# Altium footprint library Voltage Regulator.PcbLib: 34 footprints (part 2 of 3)
Each footprint in its own frame and in the unit in brackets; x right, y up, seen from the top. Pads: shape width x height; smd on the part's side, far side on the other; paste and mask are expansions set on the pad; w line width, h text height; cw(c..) or ccw(c..) is an arc to the next point about the centre after c.
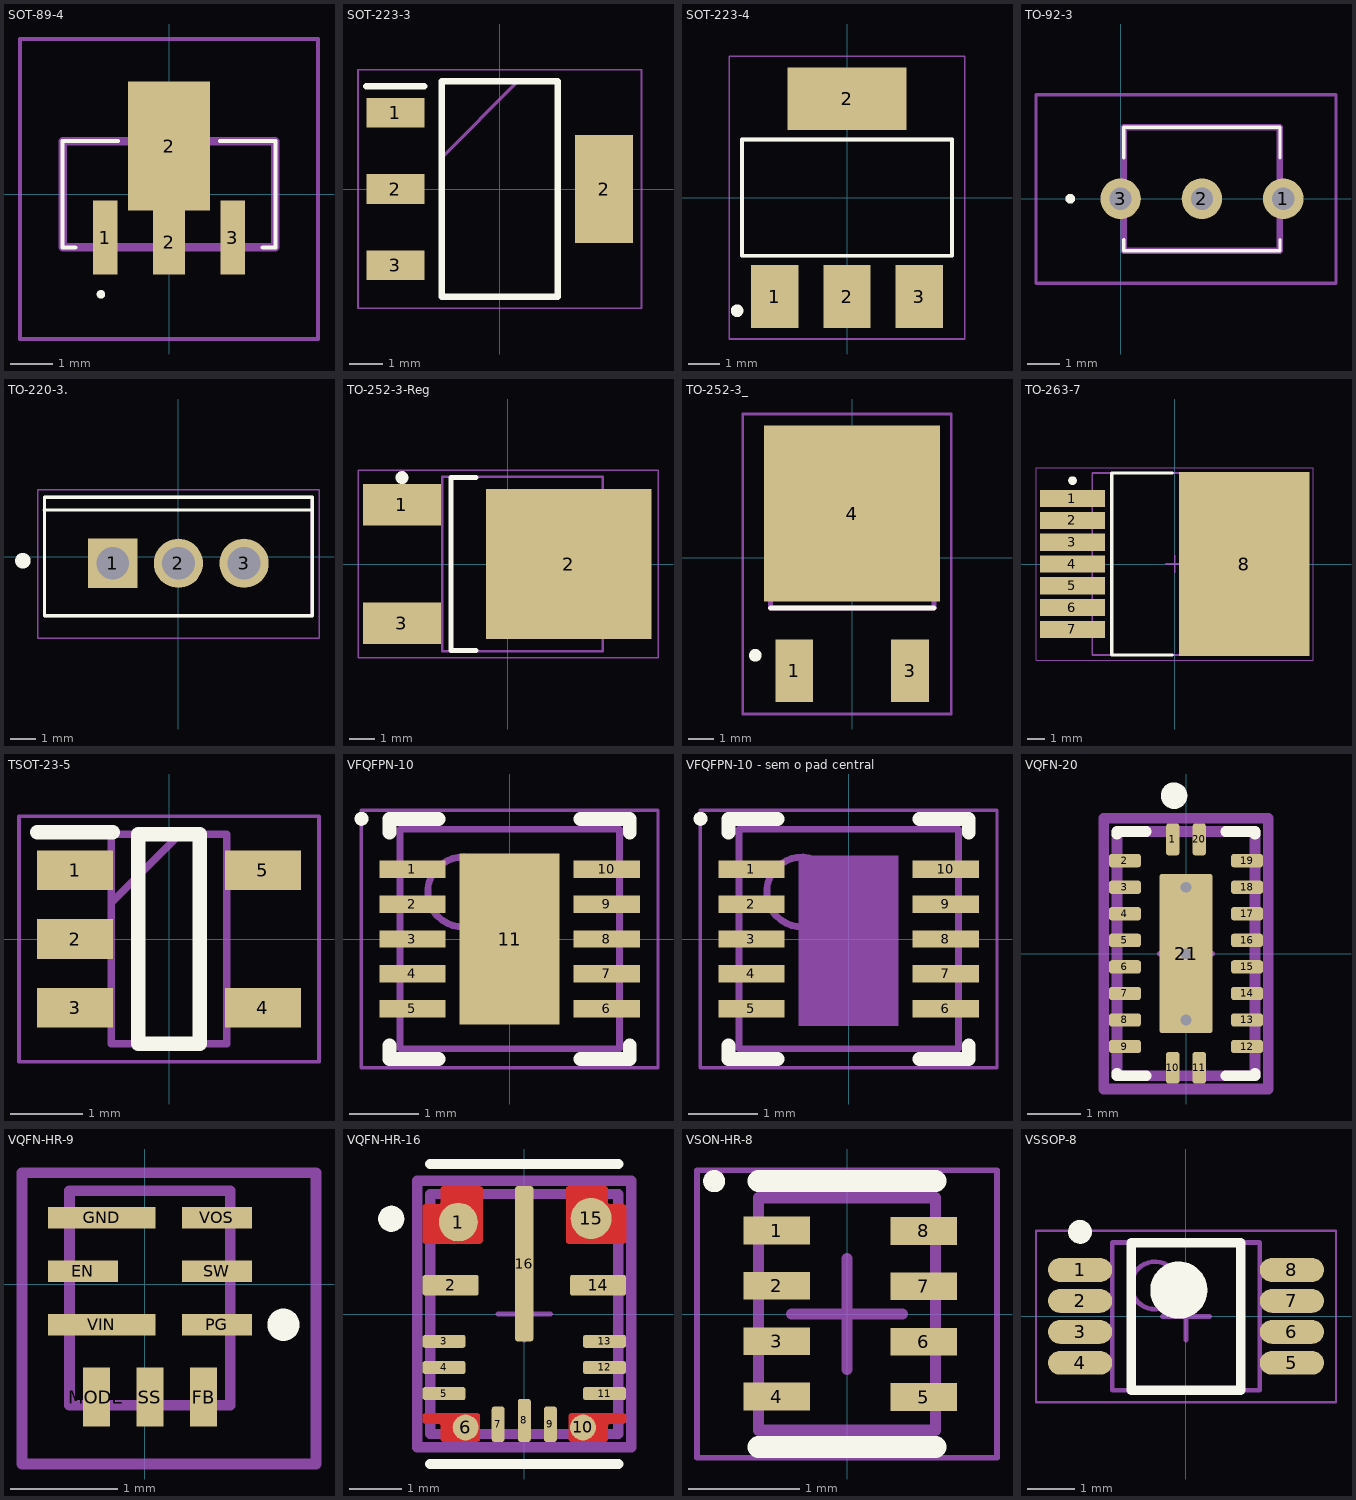
[diagram p1: the footprints below, top view; thin cyan lines are the x and y axes]

## SOT-89-4 [mm]
pads (4):
  rect 0.58x1.73 smd: 1(-1.5,-1.017) 3(1.5,-1.017)
  rect 0.76x1.5 smd: 2(0,-1.132)
  rect 1.933x3.03 smd: 2(0,1.132)
Top Overlay:
  lines w0.1: -2.2,-1.25 -2.5,-1.25 -2.5,1.25 -1.2,1.25 ; 1.2,1.25 2.5,1.25 2.5,-1.25 2.2,-1.25 ; -1.6,-2.4 ccw(c-1.6,-2.35) -1.6,-2.3 ccw(c-1.6,-2.35) -1.6,-2.4
Mechanical 13:
  lines w0.2: -2.5,-1.25 2.5,-1.25 2.5,1.25 -2.5,1.25 -2.5,-1.25
Mechanical 15:
  lines w0.1: -3.5,-3.4 3.5,-3.4 3.5,3.648 -3.5,3.648 -3.5,-3.4
3D body "AP7370-50Y-13.stp": height 1.7, standoff 0, extent -2.5,-1.25 2.5,1.25

## SOT-223-3 [mm]
pads (4):
  rect 1.75x0.9 smd: 1(-3.15,2.3) 2(-3.15,0) 3(-3.15,-2.3)
  rect 1.75x3.25 smd: 2(3.15,0)
Top Overlay:
  lines w0.2: -4.025,3.1 -2.275,3.1 ; -1.75,-3.25 -1.75,3.25 1.75,3.25 1.75,-3.25 -1.75,-3.25
Mechanical 13:
  lines w0.1: -1.75,0.95 0.55,3.25 ; -1.75,-3.25 -1.75,3.25 1.75,3.25 1.75,-3.25 -1.75,-3.25
Mechanical 15:
  lines w0.05: -4.275,-3.6 -4.275,3.6 4.275,3.6 4.275,-3.6 -4.275,-3.6
3D body "AP1117E50G-13.stp": height 1.8, standoff 0, extent -3.5,-3.25 3.5,3.25

## SOT-223-4 [mm]
pads (4):
  rect 1.5x2 smd: 1(-2.3,-3.15) 2(0,-3.15) 3(2.3,-3.15)
  rect 3.8x2 smd: 2(0,3.15)
Top Overlay:
  circle w0.2: c-3.5,-3.6 r0.1
  lines w0.127: -3.35,-1.85 -3.35,1.85 3.35,1.85 3.35,-1.85 -3.35,-1.85
Mechanical 13:
  lines w0.127: -3.35,-1.85 -3.35,1.85 3.35,1.85 3.35,-1.85 -3.35,-1.85
Mechanical 15:
  lines w0.05: -3.75,-4.5 3.75,-4.5 3.75,4.5 -3.75,4.5 -3.75,-4.5
3D body "IC_STMicroelectronics_LDL1117S50R_eec.STEP": height 0.25, standoff 0, extent -3.455,-3.933 3.445,4.167

## TO-92-3 [mm]
pads (3):
  round 1.247 hole 0.68: 1(5,0) 2(2.5,0) 3(0,0)
Top Overlay:
  lines w0.1: 0.1,-1.6 0.1,-1.25 0.1,-1.6 ; 0.1,-1.6 4.9,-1.6 ; 0.1,-1.6 4.9,-1.6 ; 0.1,2.2 4.9,2.2 ; 0.1,2.2 4.9,2.2 ; 0.1,2.2 0.1,1.25 0.1,2.2 ; 4.9,-1.6 4.9,-1.25 4.9,-1.6 ; 4.9,2.2 4.9,1.25 4.9,2.2
  lines w0.2: -1.6,0 cw(c-1.55,0) -1.5,0 ; -1.6,0 ccw(c-1.55,0) -1.5,0 ; -1.6,0 cw(c-1.55,0) -1.5,0
Mechanical 13:
  lines w0.2: 0.1,-1.6 0.1,2.2 4.9,2.2 4.9,-1.6 0.1,-1.6
Mechanical 15:
  lines w0.1: -2.6,-2.6 -2.6,3.2 6.623,3.2 6.623,-2.6 -2.6,-2.6
3D body "TO-92 Formed Leads.stp": height 8.58, standoff -3, extent -0.281,-2.341 5.259,1.219

## TO-220-3. [mm]
pads (3):
  rect 1.91x1.91 hole 1.27: 1(-2.55,-0.26)
  round 1.91 hole 1.27: 2(0,-0.26) 3(2.55,-0.26)
Top Overlay:
  circle w0.3: c-6.04,-0.16 r0.15
  lines w0.1: -5.22,1.81 5.18,1.81
  lines w0.127: -5.2,-2.3 5.2,-2.3 5.2,2.3 -5.2,2.3 -5.2,-2.3
Mechanical 13:
  circle w0.3: c-2.53,-0.16 r0.15
  lines w0.127: -5.2,-2.3 -5.2,2.3 5.2,2.3 5.2,-2.3 -5.2,-2.3
Mechanical 15:
  lines w0.05: -5.46,-3.175 -5.46,2.6 5.46,2.6 5.46,-3.175 -5.46,-3.175
3D body "L7812CV.STEP": height 20.07, standoff -8.83, extent -5.1,-1.933 5.1,2.667

## TO-252-3-Reg [mm] "D-PAK, 3-Pads, Body 6,21x6,73mm (max), IPC Medium Density"
height 2.38
pads (3):
  rect 3x1.6 smd: 1(-4.1,2.29) 3(-4.1,-2.29)
  rect 6.4x5.8 smd: 2(2.35,0)
Top Overlay:
  circle w0.25: c-4.1,3.34 r0.125
  lines w0.2: -1.25,-3.35 -2.2,-3.35 -2.2,3.35 -1.25,3.35
Mechanical 13:
  lines w0.1: -2.55,-3.375 3.67,-3.375 3.67,3.375 -2.55,3.375 -2.55,-3.375
Mechanical 15:
  lines w0.05: -5.8,-3.625 5.8,-3.625 5.8,3.625 -5.8,3.625 -5.8,-3.625
  lines w0.1: -0.5,0 0.5,0 ; 0,-0.5 0,0.5
3D body "DPAK229P991X238-3N.step": height 2.99, standoff 0, extent -4.6,-3.375 5.305,3.375

## TO-252-3_ [mm]
pads (3):
  rect 1.5x2.5 smd: 1(-2.3,-4.496) 3(2.3,-4.496)
  rect 7x7 smd: 4(0,1.754)
Top Overlay:
  lines w0.2: -3.25,-1.996 3.25,-1.996
  lines w0.3: -3.939,-3.934 cw(c-3.855,-3.88) -3.937,-3.937
Mechanical 13:
  lines w0.2: -3.25,-1.996 3.25,-1.996 3.25,3.504 -3.25,3.504 -3.25,-1.996
Mechanical 15:
  lines w0.1: -4.35,-6.215 3.937,-6.215 3.937,5.715 -4.35,5.715 -4.35,-6.215
3D body "User Library-TO-252-3.STEP": height 2.41, standoff 0, extent -3.35,-5.292 3.35,5.06

## TO-263-7 [mm] "D2-PAK, 8-Pads, Body 8,51x8,66mm (max), IPC Medium Density"
height 4.64
pads (8):
  rect 3.8x1 smd: 1(-5.95,3.81) 2(-5.95,2.54) 3(-5.95,1.27) 4(-5.95,0) 5(-5.95,-1.27) 6(-5.95,-2.54) 7(-5.95,-3.81)
  rect 7.6x10.7 smd: 8(4.05,0)
Top Overlay:
  circle w0.25: c-5.95,4.86 r0.125
  lines w0.2: -0.15,-5.3 -3.65,-5.3 -3.65,5.3 -0.15,5.3
Mechanical 13:
  lines w0.1: -4.8,-5.3 6.01,-5.3 6.01,5.3 -4.8,5.3 -4.8,-5.3
Mechanical 15:
  lines w0.05: -8.075,-5.6 8.075,-5.6 8.075,5.6 -8.075,5.6 -8.075,-5.6
  lines w0.1: -0.5,0 0.5,0 ; 0,-0.5 0,0.5
3D body "DPAK127P1463X464-8N.step": height 4.79, standoff 0, extent -6.963,-5.3 7.67,5.3

## TSOT-23-5 [mm]
pads (5):
  rect 1.05x0.55 smd: 1(-1.3,0.95) 2(-1.3,0) 3(-1.3,-0.95) 4(1.3,-0.95) 5(1.3,0.95)
Top Overlay:
  lines w0.2: -1.825,1.475 -0.775,1.475 ; -0.425,-1.45 -0.425,1.45 0.425,1.45 0.425,-1.45 -0.425,-1.45
Mechanical 13:
  lines w0.1: -0.8,0.5 0.15,1.45 ; -0.8,-1.45 -0.8,1.45 0.8,1.45 0.8,-1.45 -0.8,-1.45
Mechanical 15:
  lines w0.05: -2.075,-1.7 -2.075,1.7 2.075,1.7 2.075,-1.7 -2.075,-1.7
3D body "NCP718ASN500T1G.stp": height 1, standoff 0, extent -1.4,-1.45 1.4,1.45

## VFQFPN-10 [mm] "SON, 10-Leads, Body 3,00x3,00mm, Pitch 0,50mm, Thermal Pad 2,45x1,44mm, IPC Medium Density"
height 1
pads (11):
  rect 0.95x0.25 smd: 1(-1.395,1) 2(-1.395,0.5) 3(-1.395,0) 4(-1.395,-0.5) 5(-1.395,-1) 6(1.395,-1) 7(1.395,-0.5) 8(1.395,0) 9(1.395,0.5) 10(1.395,1)
  rect 1.44x2.45 smd: 11(0,0)
Top Overlay:
  circle w0.1: c-2.125,1.725 r0.05
  lines w0.2: -1.725,-1.525 -1.725,-1.725 -1.02,-1.725 ; -1.725,1.525 -1.725,1.725 -1.02,1.725 ; 1.02,-1.725 1.725,-1.725 1.725,-1.525 ; 1.02,1.725 1.725,1.725 1.725,1.525
Mechanical 13:
  circle w0.1: c-0.675,0.675 r0.5
  lines w0.1: -1.575,-1.575 -1.575,1.575 1.575,1.575 1.575,-1.575 -1.575,-1.575
Mechanical 15:
  lines w0.05: -2.13,-1.85 -2.13,1.85 2.13,1.85 2.13,-1.85 -2.13,-1.85
  lines w0.1: -0.5,0 0.5,0 ; 0,-0.5 0,0.5
3D body "SON50P300X100_HS-11N.step": height 1, standoff 0, extent -1.595,-1.575 1.595,1.575

## VFQFPN-10 - sem o pad central [mm] "SON, 10-Leads, Body 3,00x3,00mm, Pitch 0,50mm, Thermal Pad 2,45x1,44mm, IPC Medium Density"
height 1
pads (11):
  rect 0.95x0.25 smd: 1(-1.395,1) 2(-1.395,0.5) 3(-1.395,0) 4(-1.395,-0.5) 5(-1.395,-1) 6(1.395,-1) 7(1.395,-0.5) 8(1.395,0) 9(1.395,0.5) 10(1.395,1)
  rect 1.44x2.45 on Mech2: ""(0,-0.025)
Top Overlay:
  circle w0.1: c-2.125,1.725 r0.05
  lines w0.2: -1.725,-1.525 -1.725,-1.725 -1.02,-1.725 ; -1.725,1.525 -1.725,1.725 -1.02,1.725 ; 1.02,-1.725 1.725,-1.725 1.725,-1.525 ; 1.02,1.725 1.725,1.725 1.725,1.525
Mechanical 13:
  circle w0.1: c-0.675,0.675 r0.5
  lines w0.1: -1.575,-1.575 -1.575,1.575 1.575,1.575 1.575,-1.575 -1.575,-1.575
Mechanical 15:
  lines w0.05: -2.13,-1.85 -2.13,1.85 2.13,1.85 2.13,-1.85 -2.13,-1.85
  lines w0.1: -0.5,0 0.5,0 ; 0,-0.5 0,0.5
3D body "SON50P300X100_HS-11N.step": height 1, standoff 0, extent -1.595,-1.575 1.595,1.575

## VQFN-20 [mm]
pads (21):
  rrect40% 0.25x0.6 smd paste+0 mask+0: 1(-0.25,2.155) 10(-0.25,-2.145) 11(0.25,-2.145) 20(0.25,2.155)
  rrect40% 0.6x0.25 smd paste+0 mask+0: 2(-1.15,1.755) 3(-1.15,1.255) 4(-1.15,0.755) 5(-1.15,0.255) 6(-1.15,-0.245) 7(-1.15,-0.745) 8(-1.15,-1.245) 9(-1.15,-1.745) 12(1.15,-1.745) 13(1.15,-1.245) 14(1.15,-0.745) 15(1.15,-0.245) 16(1.15,0.255) 17(1.15,0.755) 18(1.15,1.255) 19(1.15,1.755)
  rrect10% 1x3 smd paste-1000 mask+0: 21(0,0.005)
via 0,-1.245 diameter 0.5 hole 0.2
via 0,0.005 diameter 0.5 hole 0.2
via 0,1.255 diameter 0.5 hole 0.2
Top Overlay:
  circle w0.25: c-0.225,2.98 r0.125
  lines w0.2: -1.3,-2.245 -1.3,-2.295 -0.75,-2.295 ; -1.3,2.255 -1.3,2.305 -0.75,2.305 ; 0.75,-2.295 1.3,-2.295 1.3,-2.245 ; 0.75,2.305 1.3,2.305 1.3,2.255
Top Paste:
  region: -0.425,-1.41 -0.435,-1.41 -0.453,-1.402 -0.467,-1.388 -0.475,-1.37 -0.475,-1.36 -0.475,-0.15 -0.475,-0.14 -0.467,-0.121 -0.453,-0.107 -0.435,-0.1 -0.425,-0.1 0.425,-0.1 0.435,-0.1 0.453,-0.107 0.467,-0.121 0.475,-0.14 0.475,-0.15 0.475,-1.36 0.475,-1.37 0.467,-1.388 0.453,-1.402 0.435,-1.41 0.425,-1.41
  region: 0.425,0.11 -0.425,0.11 -0.435,0.11 -0.453,0.118 -0.467,0.132 -0.475,0.15 -0.475,0.16 -0.475,1.37 -0.475,1.38 -0.467,1.399 -0.453,1.413 -0.435,1.42 -0.425,1.42 0.425,1.42 0.435,1.42 0.453,1.413 0.467,1.399 0.475,1.38 0.475,1.37 0.475,0.16 0.475,0.15 0.467,0.132 0.453,0.118 0.435,0.11
Top 3D Body:
  lines w0.2: -1.3,-2.295 -1.3,2.305 1.3,2.305 1.3,-2.295 -1.3,-2.295
Top Component Center:
  lines w0.1: -0.5,0.005 0.5,0.005 ; 0,-0.495 0,0.505
Top Courtyard:
  lines w0.2: -1.55,-2.545 -1.55,2.555 1.55,2.555 1.55,-2.545 -1.55,-2.545
Top Assembly:
  lines w0.2: -1.55,-2.545 -1.55,2.555 1.55,2.555 1.55,-2.545 -1.55,-2.545
3D body "IC_Texas_Instruments_LSF0108RKSR_eec.STEP": height 0.25, standoff 0, extent -1.55,-2.545 1.55,2.555

## VQFN-HR-9 [mm]
pads (9):
  rect 0.65x0.2 smd: EN(-0.574,0.123) PG(0.676,-0.377) SW(0.676,0.123) VOS(0.676,0.623)
  rect 0.25x0.55 smd: FB(0.551,-1.052) MODE(-0.449,-1.052) SS(0.051,-1.052)
  rect 1x0.2 smd: GND(-0.399,0.623) VIN(-0.399,-0.377)
Top Overlay:
  lines w0.2: 1.246,-0.377 ccw(c1.296,-0.377) 1.346,-0.377 ; 1.246,-0.377 cw(c1.296,-0.377) 1.346,-0.377 ; 1.246,-0.377 ccw(c1.296,-0.377) 1.346,-0.377
Mechanical 13:
  lines w0.1: -0.699,-1.127 -0.699,0.873 0.801,0.873 0.801,-1.127 -0.699,-1.127
Mechanical 15:
  lines w0.1: -1.143,-1.676 1.6,-1.676 1.6,1.041 -1.143,1.041 -1.143,-1.676
3D body "TPS62903RPJR.stp": height 1.1, standoff 0, extent -0.699,-1.127 0.801,0.873

## VQFN-HR-16 [mm]
pads (16):
  round 0.743 smd paste-1000 mask+0: 1(-1.262,1.763)
  rrect25% 1.075x0.4 smd paste+0 mask+0: 2(-1.413,0.55) 14(1.413,0.55)
  rrect40% 0.825x0.25 smd paste+0 mask+0: 3(-1.538,-0.525) 4(-1.538,-1.025) 5(-1.538,-1.525) 11(1.538,-1.525) 12(1.538,-1.025) 13(1.538,-0.525)
  round 0.495 smd paste-1000 mask+0: 6(-1.125,-2.175) 10(1.125,-2.175)
  rrect40% 0.25x0.675 smd paste+0 mask+0: 7(-0.5,-2.113) 9(0.5,-2.113)
  rrect40% 0.25x0.825 smd paste+0 mask+0: 8(0,-2.038)
  round 0.787 smd paste-1000 mask+0: 15(1.281,1.831)
  rrect29% 0.35x2.975 smd paste+0 mask+0: 16(0,0.963)
Top Layer:
  region: -1.9,1.35 -1.91,1.35 -1.928,1.358 -1.942,1.372 -1.95,1.39 -1.95,1.4 -1.95,2.05 -1.95,2.06 -1.942,2.078 -1.928,2.092 -1.91,2.1 -1.9,2.1 -1.65,2.1 -1.64,2.101 -1.622,2.108 -1.608,2.122 -1.601,2.14 -1.6,2.15 -1.6,2.4 -1.6,2.41 -1.592,2.428 -1.578,2.442 -1.56,2.45 -1.55,2.45 -0.85,2.45 -0.84,2.45 -0.822,2.442 -0.808,2.428 -0.8,2.41 -0.8,2.4 -0.8,1.4 -0.8,1.39 -0.808,1.372 -0.822,1.358 -0.84,1.35 -0.85,1.35
  region: 1.9,1.35 1.91,1.35 1.928,1.358 1.942,1.372 1.95,1.39 1.95,1.4 1.95,2.05 1.95,2.06 1.942,2.078 1.928,2.092 1.91,2.1 1.9,2.1 1.65,2.1 1.64,2.101 1.622,2.108 1.608,2.122 1.601,2.14 1.6,2.15 1.6,2.4 1.6,2.41 1.592,2.428 1.578,2.442 1.56,2.45 1.55,2.45 0.85,2.45 0.84,2.45 0.822,2.442 0.808,2.428 0.8,2.41 0.8,2.4 0.8,1.4 0.8,1.39 0.808,1.372 0.822,1.358 0.84,1.35 0.85,1.35
  region: -1.55,-2.45 -1.56,-2.45 -1.578,-2.442 -1.592,-2.428 -1.6,-2.41 -1.6,-2.4 -1.6,-2.15 -1.601,-2.14 -1.608,-2.122 -1.622,-2.108 -1.64,-2.101 -1.65,-2.1 -1.9,-2.1 -1.91,-2.1 -1.928,-2.092 -1.942,-2.078 -1.95,-2.06 -1.95,-2.05 -1.95,-1.95 -1.95,-1.94 -1.942,-1.922 -1.928,-1.908 -1.91,-1.9 -1.9,-1.9 -0.9,-1.9 -0.89,-1.9 -0.872,-1.908 -0.858,-1.922 -0.85,-1.94 -0.85,-1.95 -0.85,-2.4 -0.85,-2.41 -0.858,-2.428 -0.872,-2.442 -0.89,-2.45 -0.9,-2.45
  region: 1.55,-2.45 1.56,-2.45 1.578,-2.442 1.592,-2.428 1.6,-2.41 1.6,-2.4 1.6,-2.15 1.601,-2.14 1.608,-2.122 1.622,-2.108 1.64,-2.101 1.65,-2.1 1.9,-2.1 1.91,-2.1 1.928,-2.092 1.942,-2.078 1.95,-2.06 1.95,-2.05 1.95,-1.95 1.95,-1.94 1.942,-1.922 1.928,-1.908 1.91,-1.9 1.9,-1.9 0.9,-1.9 0.89,-1.9 0.872,-1.908 0.858,-1.922 0.85,-1.94 0.85,-1.95 0.85,-2.4 0.85,-2.41 0.858,-2.428 0.872,-2.442 0.89,-2.45 0.9,-2.45
Top Overlay:
  circle w0.25: c-2.55,1.825 r0.125
  lines w0.2: -1.8,-2.875 1.8,-2.875 ; -1.8,2.875 1.8,2.875
Top Paste:
  drawing of 4 lines, arcs and shapes, not listed
Top 3D Body:
  lines w0.2: -1.8,-2.3 1.8,-2.3 1.8,2.3 -1.8,2.3 -1.8,-2.3
Top Component Center:
  lines w0.1: -0.5,0 0.5,0 ; 0,-0.5 0,0.5
Top Courtyard:
  lines w0.2: -2.05,-2.551 2.05,-2.551 2.05,2.551 -2.05,2.551 -2.05,-2.551
Top Assembly:
  lines w0.2: -2.05,-2.551 2.05,-2.551 2.05,2.551 -2.05,2.551 -2.05,-2.551
3D body "IC_Texas_Instruments_PLM61495QRPHRQ1_eec.STEP": height 0.25, standoff 0, extent -2.05,-2.551 2.05,2.551

## VSON-HR-8 [mm] "SON, 8-Leads, Body 2,00x1,50mm, Pitch 0,50mm, IPC Medium Density"
height 1
pads (8):
  rect 0.6x0.25 smd: 1(-0.635,0.754) 2(-0.635,0.254) 3(-0.635,-0.246) 4(-0.635,-0.746) 5(0.695,-0.75) 6(0.695,-0.25) 7(0.695,0.25) 8(0.695,0.75)
Top Overlay:
  circle w0.1: c-1.2,1.2 r0.05
  lines w0.2: -0.8,-1.2 0.8,-1.2 ; -0.8,1.2 0.8,1.2
Mechanical 13:
  lines w0.1: -0.8,-1.05 0.8,-1.05 0.8,1.05 -0.8,1.05 -0.8,-1.05
Mechanical 15:
  lines w0.05: -1.355,-1.3 1.355,-1.3 1.355,1.3 -1.355,1.3 -1.355,-1.3
  lines w0.1: -0.5,0 0.5,0 ; 0,-0.5 0,0.5
3D body "SON50P150X100-8N.step": height 1, standoff 0, extent -0.88,-1.05 0.88,1.05

## VSSOP-8 [mm] "TSOP, 8-Leads, Body 3,00x3,00mm, Pitch 0,65mm, IPC Medium Density"
height 1.1
pads (8):
  oval 1.35x0.5 smd: 1(-2.225,0.975) 2(-2.225,0.325) 3(-2.225,-0.325) 4(-2.225,-0.975) 5(2.225,-0.975) 6(2.225,-0.325) 7(2.225,0.325) 8(2.225,0.975)
Top Overlay:
  circle w0.6: c-0.15,0.55 r0.3
  circle w0.25: c-2.225,1.775 r0.125
  lines w0.2: -1.15,-1.55 1.15,-1.55 1.15,1.55 -1.15,1.55 -1.15,-1.55
Mechanical 13:
  circle w0.1: c-0.65,0.65 r0.5
  lines w0.1: -1.55,-1.55 1.55,-1.55 1.55,1.55 -1.55,1.55 -1.55,-1.55
Mechanical 15:
  lines w0.05: -3.15,-1.8 3.15,-1.8 3.15,1.8 -3.15,1.8 -3.15,-1.8
  lines w0.1: -0.5,0 0.5,0 ; 0,-0.5 0,0.5
3D body "TSOP65P490X110-8N.step": height 1.1, standoff 0, extent -2.45,-1.55 2.45,1.55